# Altium integrated library MPU-6050T.IntLib: 1 symbol
Pins are listed as number, name and electrical type; pins without a type are passive.

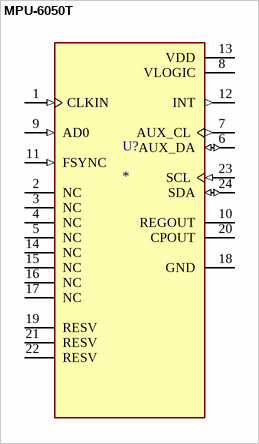
[diagram p0: symbol MPU-6050T]

## MPU-6050T
designator U?
3-Axis Gyro+3-Axis Accelerometer; MF: TDK InvenSense; MP: MPU-6050T; SnapEDA_Link: https://www.snapeda.com/parts/MPU-6050T/InvenSense/view-part/?ref=snap; Package: QFN-24 InvenSense; Value: *; Check_prices: https://www.snapeda.com/parts/MPU-6050T/InvenSense/view-part/?ref=eda
footprint QFN50P400X400X95-24N
pins: 1 CLKIN (in), 2 NC, 3 NC, 4 NC, 5 NC, 6 AUX_DA (io), 7 AUX_CL (out), 8 VLOGIC (power), 9 AD0 (in), 10 REGOUT, 11 FSYNC (in), 12 INT (out), 13 VDD (power), 14 NC, 15 NC, 16 NC, 17 NC, 18 GND (power), 19 RESV, 20 CPOUT, 21 RESV, 22 RESV, 23 SCL (in), 24 SDA (io)